# EAGLE library part CA56-11GWA (library CA56-11GWA)
Display: LED; 7-segment; 14mm; 0.56"; No.char:4; green; 310.5mcd Source: Datasheet <https://componentsearchengine.com/Datasheets/2/CA56-11GWA.pdf>
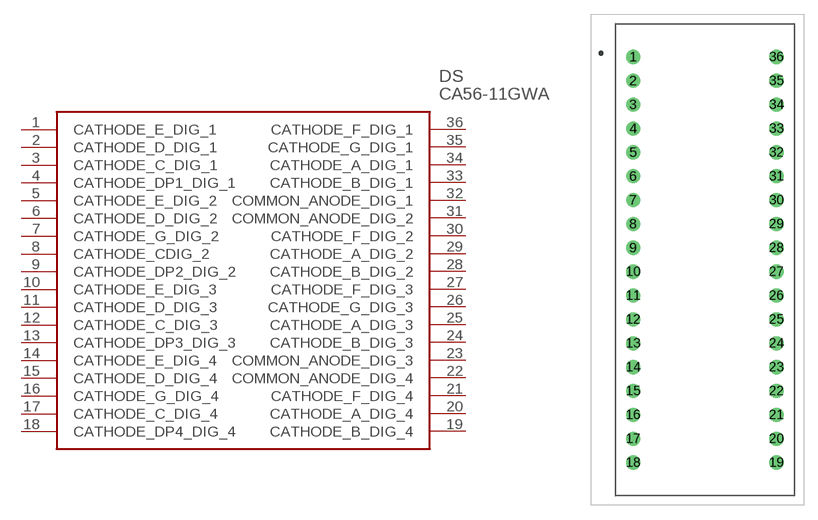
[diagram p0: symbol with the pads of CA5611GWA; footprint CA5611GWA]

Designator prefix DS

## CA56-11GWA (Description: Display: LED; 7-segment; 14mm; 0.56"; No.char:4; green; 310.5mcd; Height: 8.35mm; Manufacturer_Name: Kingbright; Manufacturer_Part_Number: CA56-11GWA; Mouser_Part_Number: 604-CA56-11GWA; Mouser_Price-Stock: https://www.mouser.co.uk/ProductDetail/Kingbright/CA56-11GWA?qs=f499HRGa1RkeWdb5ZgdDwg%3D%3D)  [CA5611GWA]
1  CATHODE_E_DIG_1
2  CATHODE_D_DIG_1
3  CATHODE_C_DIG_1
4  CATHODE_DP1_DIG_1
5  CATHODE_E_DIG_2
6  CATHODE_D_DIG_2
7  CATHODE_G_DIG_2
8  CATHODE_CDIG_2
9  CATHODE_DP2_DIG_2
10  CATHODE_E_DIG_3
11  CATHODE_D_DIG_3
12  CATHODE_C_DIG_3
13  CATHODE_DP3_DIG_3
14  CATHODE_E_DIG_4
15  CATHODE_D_DIG_4
16  CATHODE_G_DIG_4
17  CATHODE_C_DIG_4
18  CATHODE_DP4_DIG_4
19  CATHODE_B_DIG_4
20  CATHODE_A_DIG_4
21  CATHODE_F_DIG_4
22  COMMON_ANODE_DIG_4
23  COMMON_ANODE_DIG_3
24  CATHODE_B_DIG_3
25  CATHODE_A_DIG_3
26  CATHODE_G_DIG_3
27  CATHODE_F_DIG_3
28  CATHODE_B_DIG_2
29  CATHODE_A_DIG_2
30  CATHODE_F_DIG_2
31  COMMON_ANODE_DIG_2
32  COMMON_ANODE_DIG_1
33  CATHODE_B_DIG_1
34  CATHODE_A_DIG_1
35  CATHODE_G_DIG_1
36  CATHODE_F_DIG_1

## Footprint CA5611GWA (pad centres in mm)
CA56-11GWA-2
drill 1 pad 1.5: 1 0,0; 2 0,-2.54; 3 0,-5.08; 4 0,-7.62; 5 0,-10.16; 6 0,-12.7; 7 0,-15.24; 8 0,-17.78; 9 0,-20.32; 10 0,-22.86; 11 0,-25.4; 12 0,-27.94; 13 0,-30.48; 14 0,-33.02; 15 0,-35.56; 16 0,-38.1; 17 0,-40.64; 18 0,-43.18; 19 15.24,-43.18; 20 15.24,-40.64; 21 15.24,-38.1; 22 15.24,-35.56; 23 15.24,-33.02; 24 15.24,-30.48; 25 15.24,-27.94; 26 15.24,-25.4; 27 15.24,-22.86; 28 15.24,-20.32; 29 15.24,-17.78; 30 15.24,-15.24; 31 15.24,-12.7; 32 15.24,-10.16; 33 15.24,-7.62; 34 15.24,-5.08; 35 15.24,-2.54; 36 15.24,0